# Altium schematic symbol library SEMATIK_LIB.SchLib: 632 symbols (part 13 of 21)
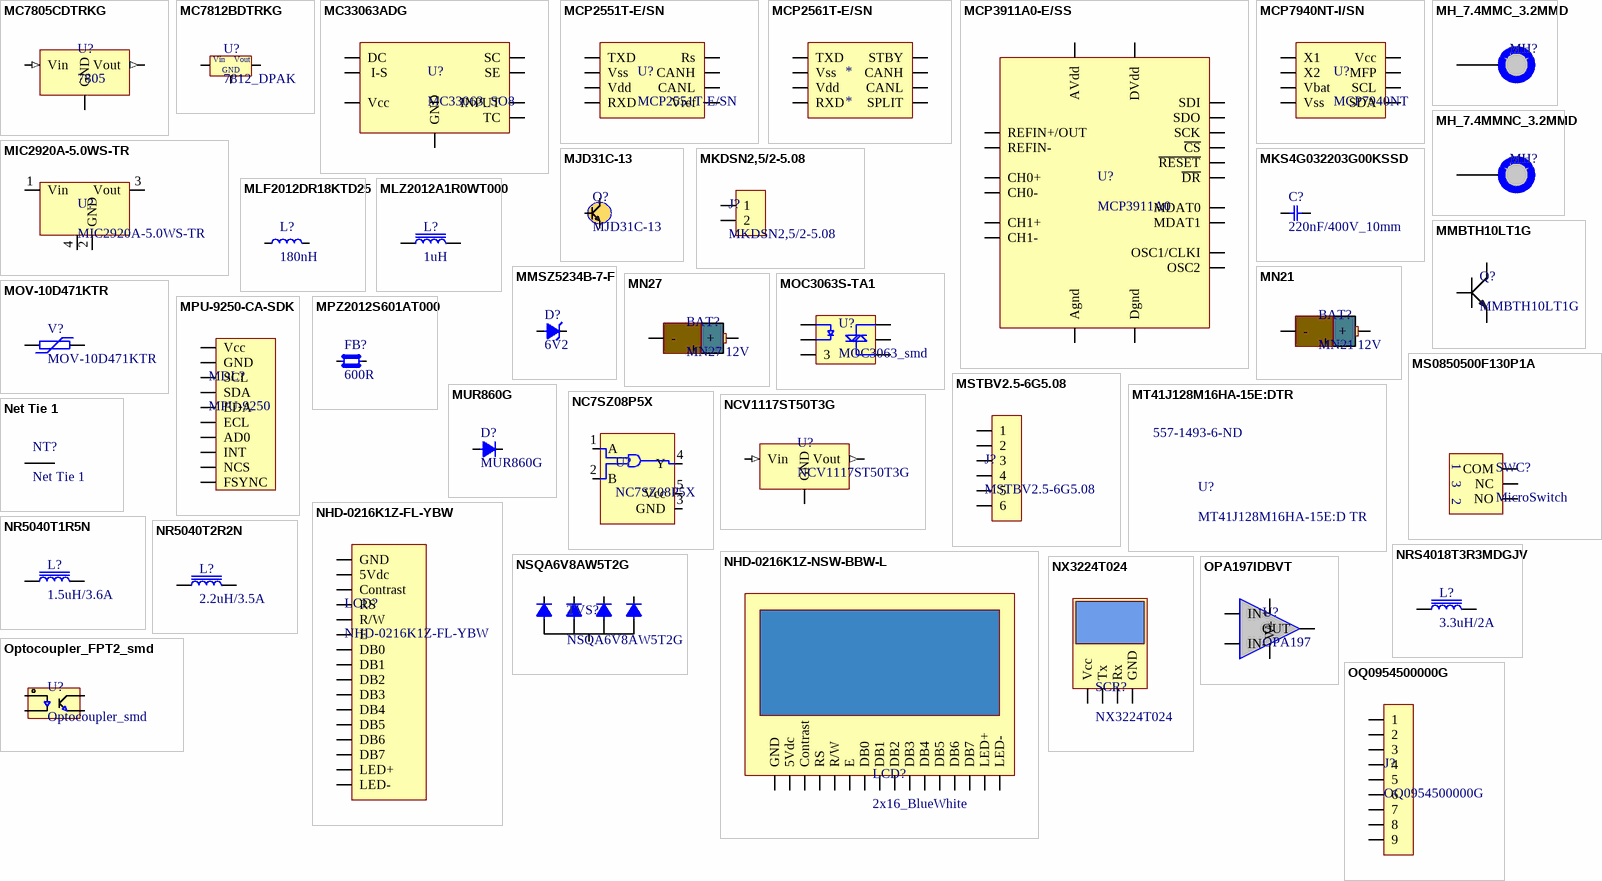
[diagram p28: symbols MC7805CDTRKG to OQ0954500000G]

## NHD-0216K1Z-NSW-BBW-L
designator LCD?, comment 2x16_BlueWhite
LCD MOD CHAR 2X16 WHT TRANSM; Manufacturer: Newhaven Display; Manufacturer Part Number: NHD-0216K1Z-NSW-BBW-L; Backlight Type: LED; Operating Supply Voltage: 5V; Interface: Parallel; Number of Characters: 32; Background Color: Blue; Contrast Ratio: 3:1; Supplier 1: Digi-Key; Stock 1: 4395; Pricing 1: 1 = 12,43000, 5 = 11,68800, 10 = 10,94200, 50 = 10,32000, 100 = 9,82260, 250 = 9,32524, 500 = 8,95222 (USD); RoHS: Yes; Mount: Screw; Number of Pins: 16; Min Operating Temperature: -20°C; Max Operating Temperature: 70°C; Package Quantity: 50; Packaging: Bulk; ComponentLink1URL: https://datasheet.ciiva.com/19454/2118598-19454067.pdf?src-supplier=Jameco; ComponentLink1Description: https://datasheet.ciiva.com/19454/2118598-19454067.pdf?src-supplier=Jameco; ComponentLink2URL: https://datasheet.ciiva.com/2102/nhd-0216k1z-nsw-bbw-l-2102246.pdf?src-supplier=Digi-Key; ComponentLink2Description: https://datasheet.ciiva.com/2102/nhd-0216k1z-nsw-bbw-l-2102246.pdf?src-supplier=Digi-Key; ComponentLink3URL: https://datasheet.ciiva.com/5325/nhd-0216k1z-nsw-bbw-l-35602-5325807.pdf?src-supplier=Mouser; ComponentLink3Description: https://datasheet.ciiva.com/5325/nhd-0216k1z-nsw-bbw-l-35602-5325807.pdf?src-supplier=Mouser; ComponentLink4URL: https://datasheet.ciiva.com/49271/70518091-49271829.pdf?src-supplier=Allied+Electronics; ComponentLink4Description: https://datasheet.ciiva.com/49271/70518091-49271829.pdf?src-supplier=Allied+Electronics; ComponentLink5URL: https://datasheet.ciiva.com/16231/nhd-0216k1z-nsw-bbw-l-16231594.pdf?src-supplier=Onlinecomponents.com; ComponentLink5Description: https://datasheet.ciiva.com/16231/nhd-0216k1z-nsw-bbw-l-16231594.pdf?src-supplier=Onlinecomponents.com; ComponentLink6URL: https://datasheet.ciiva.com/30085/nhd-0216k1z-nsw-bbw-l-30085308.pdf?src-supplier=Onlinecomponents.com; ComponentLink6Description: https://datasheet.ciiva.com/30085/nhd-0216k1z-nsw-bbw-l-30085308.pdf?src-supplier=Onlinecomponents.com; Supplier Part Number 1: NHD-0216K1Z-NSW-BBW-L-ND
footprint LCD_2x16_8.4mm
pins: 1 GND, 2 5Vdc, 3 Contrast, 4 RS, 5 R/W, 6 E, 7 DB0, 8 DB1, 9 DB2, 10 DB3, 11 DB4, 12 DB5, 13 DB6, 14 DB7, 15 LED+, 16 LED-

## NR5040T1R5N
designator L?, comment 1.5uH/3.6A
FIXED IND uH 1.5 3.6A 26 MOHM SMD; Manufacturer: Taiyo Yuden; Manufacturer Part Number: NR5040T1R5N; Core Material: Ferrite; Saturation Current: 6A; Tolerance: 30%; Shielding: Shielded; Self Resonant Frequency: 60MHz; Inductance: 1.5uH; DC Resistance (DCR): 26mR; Test Frequency: 100kHz; Supplier 1: Digi-Key; Stock 1: 1326; Pricing 1: 1 = 0,43000, 10 = 0,37300, 25 = 0,34680, 50 = 0,29340, 100 = 0,26680, 250 = 0,25076, 500 = 0,22408 (USD); RoHS: Yes; Mount: Surface Mount; Case/Package: Nonstandard; Number of Pins: 2; Min Operating Temperature: -25°C; Max Operating Temperature: 120°C; Package Quantity: 1500; Current Rating: 3.6A; Packaging: Tape and Reel; Composition: Wirewound; Max DC Current: 6A; Termination: SMD/SMT; Length: 0.193inch; Height: 4mm; Width: 0.193inch; Height - Seated (Max): 0.161inch; Depth: 5.1mm; Radiation Hardening: No; Halogen Free: Halogen Free; ComponentLink1URL: https://datasheet.ciiva.com/8502/nr5040t1r5n-ss-8502889.pdf?src-supplier=Avnet; ComponentLink1Description: https://datasheet.ciiva.com/8502/nr5040t1r5n-ss-8502889.pdf?src-supplier=Avnet; ComponentLink2URL: https://datasheet.ciiva.com/6689/wound04-e-6689255.pdf?src-supplier=Digi-Key; ComponentLink2Description: https://datasheet.ciiva.com/6689/wound04-e-6689255.pdf?src-supplier=Digi-Key; ComponentLink3URL: https://datasheet.ciiva.com/6689/wound04-e-6689253.pdf?src-supplier=Digi-Key; ComponentLink3Description: https://datasheet.ciiva.com/6689/wound04-e-6689253.pdf?src-supplier=Digi-Key; Supplier Part Number 1: 587-2367-1-ND
footprint INDUCTOR_TAIYO_NR5040
pins: 1, 2

## NR5040T2R2N
designator L?, comment 2.2uH/3.5A
FIXED IND uH 2.2 3.5A 28.6 MOHM; Manufacturer: Taiyo Yuden; Manufacturer Part Number: NR5040T2R2N; Core Material: Ferrite; Inductance Tolerance: 30%; Self Resonant Frequency: 42MHz; Saturation Current: 4.6A; Shielding: Shielded; Inductance: 2.2uH; DC Resistance (DCR): 28.6mR; Test Frequency: 100kHz; Supplier 1: Digi-Key; Stock 1: 26830; Pricing 1: 1 = 0,43000, 10 = 0,37300, 25 = 0,34680, 50 = 0,29340, 100 = 0,26680, 250 = 0,25076, 500 = 0,22408 (USD); RoHS: Yes; Mount: Surface Mount; Case/Package: Nonstandard; Number of Pins: 2; Min Operating Temperature: -25°C; Max Operating Temperature: 120°C; Packaging: Tape and Reel; Package Quantity: 1500; Current Rating: 3.5A; Tolerance: 30%; Composition: Wirewound; Max DC Current: 4.6A; Termination: SMD/SMT; RMS Current (Irms): 3.5A; Length: 0.193inch; Height: 4mm; Width: 0.193inch; Height - Seated (Max): 0.161inch; Depth: 5.1mm; Radiation Hardening: No; REACH SVHC: Unknown; Halogen Free: Halogen Free; ComponentLink1URL: https://datasheet.ciiva.com/8502/nr5040t2r2n-ss-8502898.pdf?src-supplier=Avnet; ComponentLink1Description: https://datasheet.ciiva.com/8502/nr5040t2r2n-ss-8502898.pdf?src-supplier=Avnet; ComponentLink2URL: https://datasheet.ciiva.com/6689/wound04-e-6689257.pdf?src-supplier=Digi-Key; ComponentLink2Description: https://datasheet.ciiva.com/6689/wound04-e-6689257.pdf?src-supplier=Digi-Key; ComponentLink3URL: https://datasheet.ciiva.com/6689/wound04-e-6689260.pdf?src-supplier=Digi-Key; ComponentLink3Description: https://datasheet.ciiva.com/6689/wound04-e-6689260.pdf?src-supplier=Digi-Key; ComponentLink4URL: https://datasheet.ciiva.com/6689/wound04-e-6689263.pdf?src-supplier=Digi-Key; ComponentLink4Description: https://datasheet.ciiva.com/6689/wound04-e-6689263.pdf?src-supplier=Digi-Key; Supplier Part Number 1: 587-2369-6-ND
footprint INDUCTOR_TAIYO_NR5040
pins: 1, 2

## NRS4018T3R3MDGJV
designator L?, comment 3.3uH/2A
FIXED IND uH 3.3 2A 66 MOHM SMD; Manufacturer: Taiyo Yuden; Manufacturer Part Number: NRS4018T3R3MDGJV; Core Material: Ferrite; Tolerance: 20%; Inductance: 3.3uH; Saturation Current: 2.3A; Shielding: Shielded; DC Resistance (DCR): 66mR; Self Resonant Frequency: 45MHz; Test Frequency: 100kHz; Supplier 1: Digi-Key; Stock 1: 7981; Pricing 1: 1 = 0,44000, 10 = 0,39000, 25 = 0,34160, 50 = 0,29280, 100 = 0,26830, 250 = 0,24392, 500 = 0,22928, 1000 = 0,17563 (USD); RoHS: Yes; Mount: Surface Mount; Case/Package: Nonstandard; Min Operating Temperature: -40°C; Max Operating Temperature: 125°C; Packaging: Tape and Reel; Composition: Wirewound; Current Rating: 2A; Length: 0.157inch; Width: 0.157inch; Height - Seated (Max): 0.071inch; ComponentLink1URL: https://ds.yuden.co.jp/TYCOMPAS/ut/detail?pn=NRS4018T3R3MDGJV  &amp;u=M&src-supplier=Digi-Key; ComponentLink1Description: https://ds.yuden.co.jp/TYCOMPAS/ut/detail?pn=NRS4018T3R3MDGJV  &amp;u=M&src-supplier=Digi-Key; ComponentLink2URL: http://ds.yuden.co.jp/TYCOMPAS/ut/detail.do?productNo=NRS4018T3R3MDGJV&fileName=NRS4018T3R3MDGJV_SS&mode=specSheetDownload&src-supplier=Digi-Key; ComponentLink2Description: http://ds.yuden.co.jp/TYCOMPAS/ut/detail.do?productNo=NRS4018T3R3MDGJV&fileName=NRS4018T3R3MDGJV_SS&mode=specSheetDownload&src-supplier=Digi-Key; ComponentLink3URL: http://www.yuden.co.jp/productdata/catalog/en/wound04_e.pdf?src-supplier=Digi-Key; ComponentLink3Description: http://www.yuden.co.jp/productdata/catalog/en/wound04_e.pdf?src-supplier=Digi-Key; Supplier Part Number 1: 587-6019-1-ND
footprint FIX_IND_3.3UH(4x4x1.8)
pins: 1, 2

## NSQA6V8AW5T2G
designator TVS?
TVS Quad ESD Suppressor 8KV 5V SC70-5; Manufacturer: ON Semiconductor; Number of Elements: 4; Reverse Breakdown Voltage: 6.4V; Element Configuration: Common Anode; Capacitance: 15pF; Max Surge Current: 1.6A; Direction: Unidirectional; Clamping Voltage: 13V; Peak Pulse Power: 20W; Power Line Protection: No; Breakdown Voltage: 6.8V; Leakage Current: 1uA; Test Current: 1mA; Max Breakdown Voltage: 7.1V; ESD Protection: Yes; Supplier 1: Digi-Key; Manufacturer Part Number: NSQA6V8AW5T2G; Stock 1: 19; Pricing 1: 1 = 0,35000, 10 = 0,28200, 25 = 0,25800, 100 = 0,16200, 250 = 0,16020, 500 = 0,15000, 1000 = 0,10200 (USD); RoHS: Yes; Case/Package: SC; Number of Pins: 5; Contact Plating: Tin,Matte; Min Operating Temperature: -40°C; Max Operating Temperature: 125°C; Package Quantity: 1; Operating Supply Voltage: 5V; Packaging: Tape and Reel; Number of Unidirectional Channels: 4; Reverse Standoff Voltage: 5V; Min Breakdown Voltage: 6.4V; Polarity: Unidirectional; Number of Channels: 4; Termination: SMD/SMT; Peak Pulse Current: 1.6A; Power Dissipation: 20W; Max Reverse Leakage Current: 1uA; Number of Lines: 4; Voltage Rating (DC): 6.8V; Composition: Zener; Length: 2.2mm; Height: 1mm; Width: 1.35mm; Depth: 1.35mm; Radiation Hardening: No; Lead Free: Lead Free; Halogen Free: Halogen Free; ComponentLink1URL: https://datasheet.ciiva.com/11193/nsqa6v8aw5t2-d-11193200.pdf?src-supplier=Avnet; ComponentLink1Description: https://datasheet.ciiva.com/11193/nsqa6v8aw5t2-d-11193200.pdf?src-supplier=Avnet; ComponentLink2URL: https://datasheet.ciiva.com/15143/getdatasheetpartid-134373-15143649.pdf?src-supplier=Verical; ComponentLink2Description: https://datasheet.ciiva.com/15143/getdatasheetpartid-134373-15143649.pdf?src-supplier=Verical; ComponentLink3URL: https://datasheet.ciiva.com/339/nsqa6v8aw5t2-d-339844.pdf?src-supplier=Digi-Key; ComponentLink3Description: https://datasheet.ciiva.com/339/nsqa6v8aw5t2-d-339844.pdf?src-supplier=Digi-Key; ComponentLink4URL: https://datasheet.ciiva.com/30479/0900766b8127caf9-30479001.pdf?src-supplier=RSComponents; ComponentLink4Description: https://datasheet.ciiva.com/30479/0900766b8127caf9-30479001.pdf?src-supplier=RSComponents; ComponentLink5URL: https://datasheet.ciiva.com/339/nsqa6v8aw5t2-d-339846.pdf?src-supplier=Digi-Key; ComponentLink5Description: https://datasheet.ciiva.com/339/nsqa6v8aw5t2-d-339846.pdf?src-supplier=Digi-Key; Supplier Part Number 1: NSQA6V8AW5T2GOSCT-ND
footprint SOT-353
pins: 1 Katot, 2 Anot, 3 Katot, 4 Katot, 5 Katot

## NX3224T024
designator SCR?
HMI SCREEN TFT LCD 2.4" TOUCHSENSE
footprint HMI_NEXTION_2.4_Inch
pins: 1 Vcc, 2 Tx, 3 Rx, 4 GND

## OPA197IDBVT
designator U?, comment OPA197
IC OPAMP GP 1 CIRCUIT SOT23-5
footprint SOT-23-5
pins: 1 OUT, 2 V-, 3 IN+, 4 IN-, 5 V+

## Optocoupler_FPT2_smd
designator U?, comment Optocoupler_smd
Manufacturer: Everlight; Manufacturer Part Number: EL3H7(B)(TA)-VG; Number of Channels: 1; Collector Emitter Voltage (VCEO): 80V; Max Power Dissipation: 200mW; Forward Current: 50mA; Forward Voltage: 1.4V; Reverse Breakdown Voltage: 6V; Rise Time: 18000ns; Collector Emitter Saturation Voltage: 200mV; Isolation Voltage: 3.75kV; Current Transfer Ratio: 260%; Approvals: UL; Supplier 1: Digi-Key; Stock 1: 147538; Pricing 1: 1=0.42, 10=0.304, 25=0.248, 100=0.1985, 250=0.16752, 500=0.1427, 1000=0.11167, 2500=0.10237 (USD); Mount: Surface Mount; Case/Package: SSOP; Number of Pins: 4; Min Operating Temperature: -55°C; Max Operating Temperature: 125°C; Packaging: Tape and Reel; Package Quantity: 1; Max Output Voltage: 80V; Output Current per Channel: 50mA; Max Input Current: 50mA; Max Collector Current: 50mA; Fall Time: 18000ns; Number of Elements: 1; Power Dissipation: 200mW; Collector Emitter Breakdown Voltage: 80V; Radiation Hardening: No; Lead Free: Lead Free; ComponentLink1URL: https://everlightamericas.com/index.php?controller=attachment&id_attachment=2584&src-supplier=Digi-Key; ComponentLink1Description: https://everlightamericas.com/index.php?controller=attachment&id_attachment=2584&src-supplier=Digi-Key; ComponentLink2URL: https://everlightamericas.com/index.php?controller=attachment&amp;id_attachment=2584&src-supplier=Digi-Key; ComponentLink2Description: https://everlightamericas.com/index.php?controller=attachment&amp;id_attachment=2584&src-supplier=Digi-Key; ComponentLink3URL: https://www.verical.com/server-webapp/html/getDatasheet?partID=416716&src-supplier=Verical; ComponentLink3Description: https://www.verical.com/server-webapp/html/getDatasheet?partID=416716&src-supplier=Verical; Supplier Part Number 1: 1080-1197-6-ND
footprint FPT2_OPTO_SMD
pins: 1 Anod, 2 Cath, 3 Emiter, 4 Collector

## OQ0954500000G
designator J?
TERM BLOCK HDR 9POS VERT 5.08MM; Manufacturer: Amphenol Anytek; Number of Positions: 9; Number of Levels: 1; Pitch: 0.200" (5.08mm); Header Orientation: Vertical; Material Flammability Rating: UL94 V-0; Contact Tail Length: 0.157" (4.00mm); Supplier 1: Digi-Key; Manufacturer Part Number: OQ0954500000G; RoHS: RoHS Compliant; Category: Connectors, Interconnects; Stock 1: 1515; Pricing 1: 1=0.99, 10=0.696, 25=0.6492, 50=0.5892, 100=0.5865, 250=0.49528, 500=0.46922, 1000=0.41709, 5000=0.33888 (USD); Packaging: Bulk; Part Status: Active; Type: Header, Male Pins, Shrouded (4 Side); Positions Per Level: 9; Plug Wire Entry: -; Termination Style: Solder; Mounting Type: Through Hole; Current - IEC: -; Wire Gauge or Range - AWG: -; Wire Gauge or Range - mm²: -; Color: Green; Operating Temperature: -40°C ~ 115°C; Contact Mating Finish: Tin; Features: -; Ingress Protection: -; Screw Size: -; Torque - Screw: -; Wire Strip Length: -; Contact Material: Copper Alloy; Housing Material: Thermoplastic Resin; Insulation Height: 0.472" (12.00mm); ComponentLink1URL: http://portal.fciconnect.com/Comergent//fci/drawing/20020107.pdf; ComponentLink1Description: http://portal.fciconnect.com/Comergent//fci/drawing/20020107.pdf; Supplier Part Number 1: 609-3903-ND
footprint SOCKET_5.08_1X9_180_CLOSE
footprint SOCKET_5.08_1X9_180_CLOSE_WITHPLUG
pins: 1, 2, 3, 4, 5, 6, 7, 8, 9

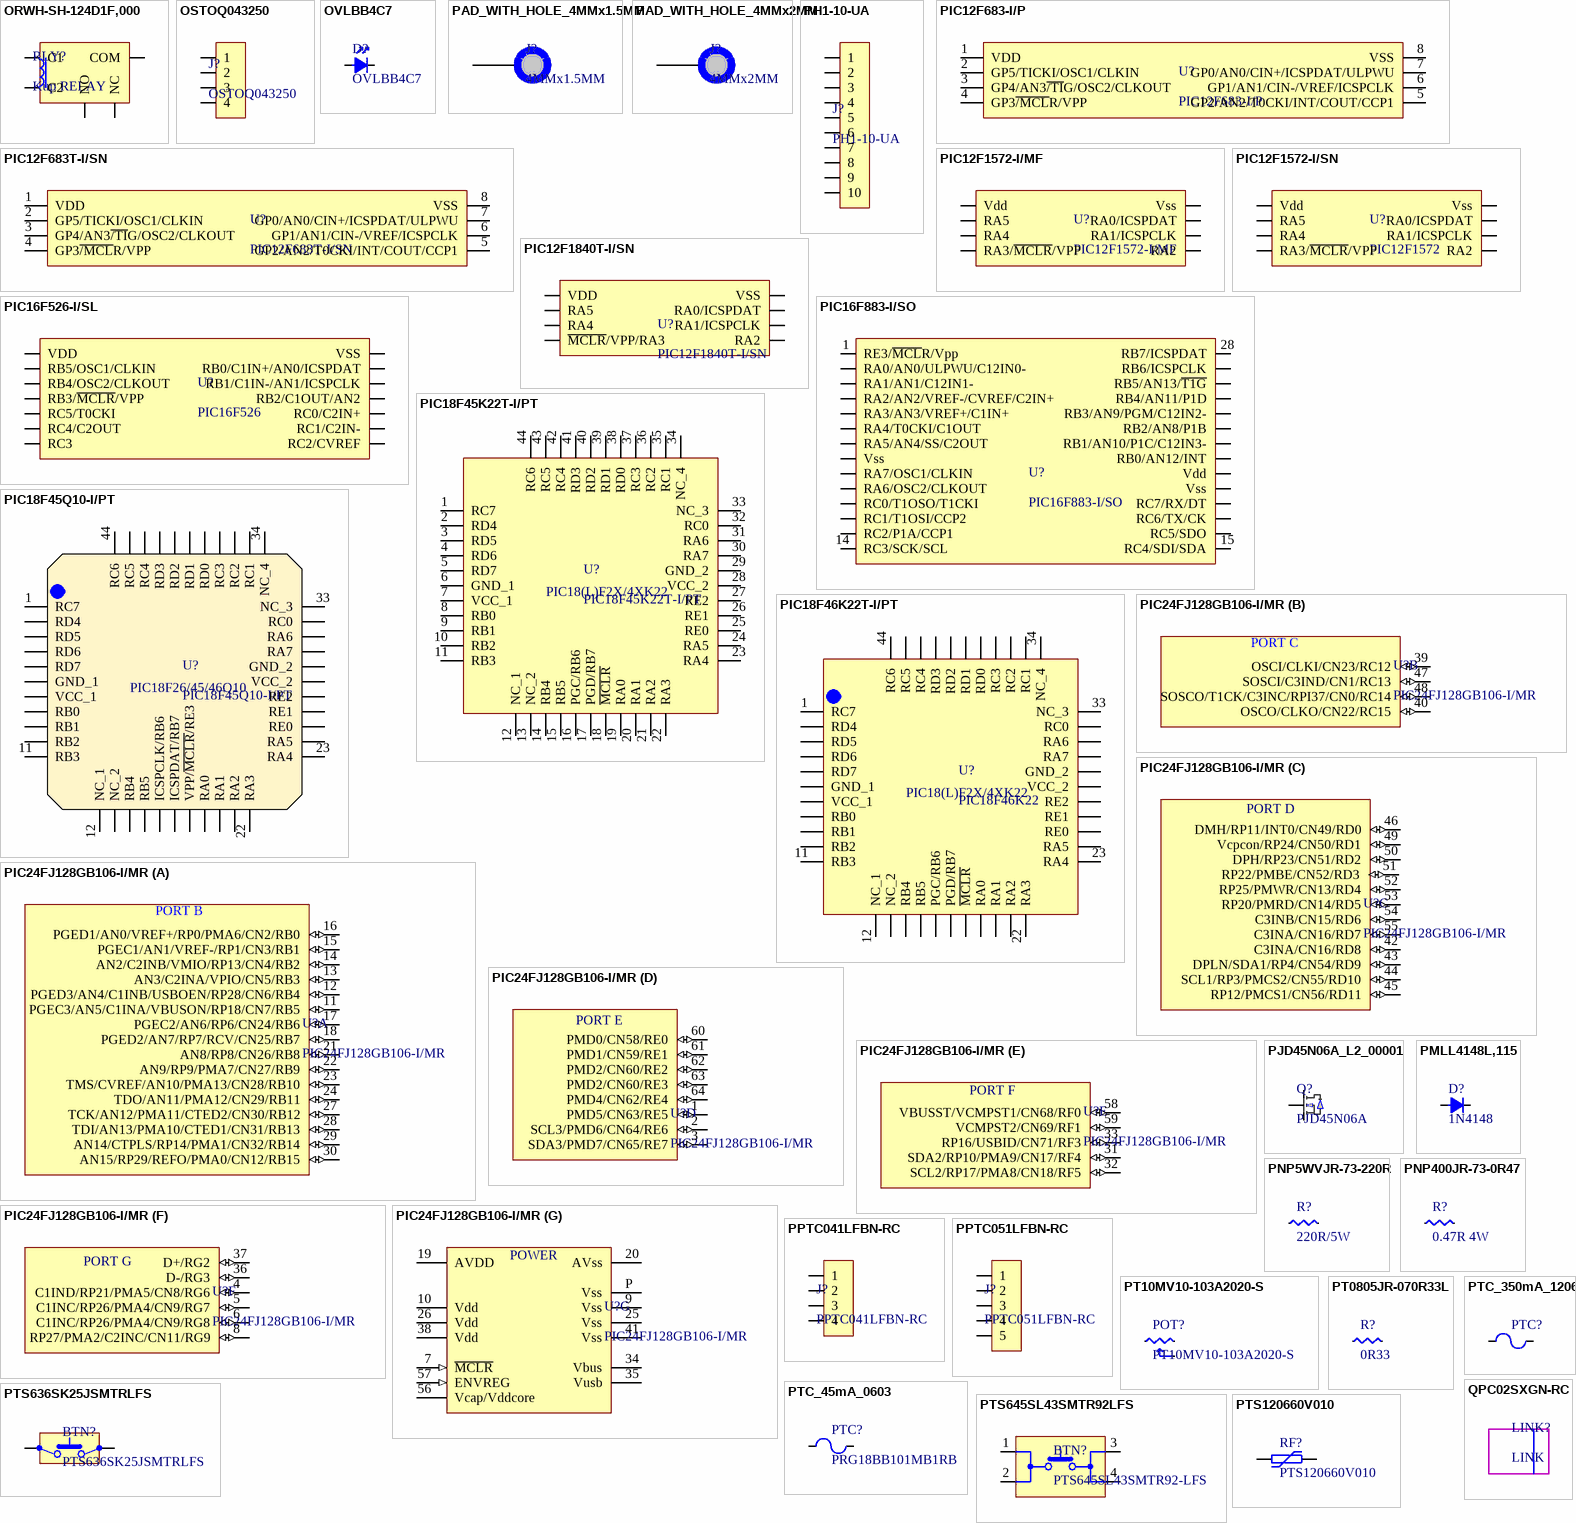
[diagram p10: symbols ORWH-SH-124D1F,000 to QPC02SXGN-RC]

## ORWH-SH-124D1F,000
designator RLY?, comment Kup RELAY
RELAY GEN PURPOSE SPDT 10A 24V; Manufacturer: TE Connectivity OEG; Manufacturer Part Number: 1-1721150-5; Contact Voltage Rating (AC): 277V; Coil Resistance: 1.6kR; Coil Power: 400mW; Coil Type: Non-Latching; Power Consumption: 360mW; Supplier 1: Digi-Key; Stock 1: 12755; Pricing 1: 1 = 1,29000, 10 = 1,21000, 25 = 1,07560, 50 = 1,02160, 100 = 0,96790, 250 = 0,86032, 500 = 0,80656, 1000 = 0,75278, 5000 = 0,72590 (USD); RoHS: Yes; Mount: PCB; Weight: 9.5g; Contact Material: Silver; Min Operating Temperature: -30°C; Max Operating Temperature: 70°C; Termination: PCB; Throw Configuration: SPDT; Coil Voltage (DC): 24V; Contact Current Rating: 10A; Packaging: Rail/Tube; Package Quantity: 25; Length: 0.748inch; Height: 0.622inch; Depth: 15.5mm; Width: 15.5mm; REACH SVHC: Unknown; ComponentLink1URL: https://datasheet.ciiva.com/30468/0900766b81290592-30468804.pdf?src-supplier=RSComponents; ComponentLink1Description: https://datasheet.ciiva.com/30468/0900766b81290592-30468804.pdf?src-supplier=RSComponents; ComponentLink2URL: https://datasheet.ciiva.com/16425/ng-cd-1721150-d-246715-16425074.pdf?src-supplier=Mouser; ComponentLink2Description: https://datasheet.ciiva.com/16425/ng-cd-1721150-d-246715-16425074.pdf?src-supplier=Mouser; ComponentLink3URL: https://datasheet.ciiva.com/22661/1716748-22661638.pdf?src-supplier=Element14; ComponentLink3Description: https://datasheet.ciiva.com/22661/1716748-22661638.pdf?src-supplier=Element14; Supplier Part Number 1: PB2031-ND
footprint Relay_HJR-3FF-S-Z
pins: C1, C2, COM, NC, NO

## OSTOQ043250
designator J?
TERM BLOCK HDR 4POS VERT 3.81MM; Manufacturer: On Shore Technology Inc.; Number of Positions: 4; Number of Levels: 1; Pitch: 0.150" (3.81mm); Header Orientation: Vertical; Contact Tail Length: 0.138" (3.50mm); Supplier 1: Digi-Key; Manufacturer Part Number: OSTOQ043250; RoHS: RoHS Compliant; Category: Connectors, Interconnects; Stock 1: 14666; Pricing 1: 1=0.89, 10=0.555, 25=0.4752, 50=0.4272, 100=0.4183, 250=0.356, 500=0.3382, 1000=0.3026, 5000=0.23674 (USD); Packaging: Bulk; Part Status: Active; Type: Header, Male Pins, Shrouded (4 Side); Positions Per Level: 4; Plug Wire Entry: -; Termination Style: -; Mounting Type: Solder; Current - IEC: -; Wire Gauge or Range - AWG: -; Wire Gauge or Range - mm²: -; Color: -; Operating Temperature: -30°C ~ 105°C; Contact Mating Finish: Tin; Features: -; Material Flammability Rating: -; Ingress Protection: -; Screw Size: -; Torque - Screw: -; Wire Strip Length: -; Contact Material: -; Housing Material: Brass; Insulation Height: 0.138" (3.50mm); ComponentLink1URL: http://www.on-shore.com/wp-content/uploads/2015/09/ostoqxx3250.pdf; ComponentLink1Description: http://www.on-shore.com/wp-content/uploads/2015/09/ostoqxx3250.pdf; Supplier Part Number 1: ED2821-ND
footprint 1x4_150mil_connector_180
pins: 1, 2, 3, 4

## OVLBB4C7
designator D?
LED BLUE CLEAR 3MM T/H; Manufacturer 1: TT Optek; Lens Color: Colorless; Luminous Intensity: 900mcd; Viewing Angle: 45°; Forward Voltage: 3.2V; Lens Style: Dome,Round,Clear; Wavelength: 470nm; Forward Current: 20mA; Number of Elements: 1; Power Dissipation: 100W; Reverse Voltage: 5V; Lead Length: 23.9mm; Supplier 1: Digi-Key; Manufacturer Part Number 1: OVLBB4C7; Description 1: LED BLUE CLEAR 3MM T/H; Stock 1: 13716; Pricing 1: 1=0.34, 100=0.32, 250=0.31, 500=0.3, 1000=0.29, 2500=0.28, 5000=0.27, 10000=0.26, 25000=0.25 (USD); Mount: Through Hole; Case/Package: Radial; Number of Pins: 1; Color: Blue; Min Operating Temperature: -40°C; Max Operating Temperature: 100°C; Packaging: Bulk; Package Quantity: 500; Illumination Color: Blue; Dominant Wavelength: 470nm; Test Current: 20mA; Lens Transparency: Clear; Length: 3mm; Height: 5.35mm; Depth: 3mm; Radiation Hardening: No; REACH SVHC: No SVHC; Lead Free: Lead Free; ComponentLink1URL: http://www.farnell.com/datasheets/2158882.pdf?src-supplier=Element14; ComponentLink1Description: http://www.farnell.com/datasheets/2158882.pdf?src-supplier=Element14; ComponentLink2URL: http://www.ttelectronics.com/sites/default/files/download-files/OVLBB4C7.pdf?src-supplier=Digi-Key; ComponentLink2Description: http://www.ttelectronics.com/sites/default/files/download-files/OVLBB4C7.pdf?src-supplier=Digi-Key; ComponentLink3URL: http://www.mouser.com/ds/2/414/OVLBY4C7-209007.pdf?src-supplier=Mouser; ComponentLink3Description: http://www.mouser.com/ds/2/414/OVLBY4C7-209007.pdf?src-supplier=Mouser; ComponentLink4URL: http://www.newark.com/pdfs/datasheets/Optek/OVLBB4C7.pdf?src-supplier=Element14; ComponentLink4Description: http://www.newark.com/pdfs/datasheets/Optek/OVLBB4C7.pdf?src-supplier=Element14; Supplier Part Number 1: 365-1173-ND
footprint Led_3mm_blue
pins: 1 Anot, 2 Katot

## PAD_WITH_HOLE_4MMx1.5MM
designator J?, comment 4MMx1.5MM  (no BOM)
pad with hole 4mmx1.5mm
footprint PAD_WITH_HOLE_4MMx1.5MM
pins: 1

## PAD_WITH_HOLE_4MMx2MM
designator J?, comment 4MMx2MM  (no BOM)
pad with hole 4mmx2mm
footprint PAD_WITH_HOLE_4MMx1.5MM
pins: 1

## PH1-10-UA
designator J?
CONN HEADER 10POS .100; Manufacturer: Adam Equipment; Pitch: 2.54mm; Supplier 1: Digi-Key; Manufacturer Part Number: PH1-10-UA; RoHS: Yes; Category: Connectors; Stock 1: 2034; Pricing 1: 1=0,19000, 10=0,18100, 100=0,11160, 500=0,09236, 1000=0,08081, 5000=0,06926, 10000=0,06734 (USD); Termination: PCB; Number of Rows: 1; ComponentLink1URL: https://datasheet.ciiva.com/13676/page-292-295-13676646.pdf?src-supplier=Mouser; ComponentLink1Description: https://datasheet.ciiva.com/13676/page-292-295-13676646.pdf?src-supplier=Mouser; Supplier Part Number 1: 2057-PH1-10-UA-ND
footprint 1x10_100mil_Header_erkek
pins: 1, 2, 3, 4, 5, 6, 7, 8, 9, 10

## PIC12F683-I/P
designator U?
IC MCU 8BIT 3.5KB FLASH 8DIP; Manufacturer 1: Microchip; Data Bus Width: 8b; Core Architecture: PIC; Number of PWM Channels: 1; RAM Size: 128B; Number of Timers/Counters: 3; Min Supply Voltage: 4.5V; Operating Supply Voltage: 5V; Max Supply Voltage: 5.5V; Number of I/Os: 6; Frequency: 20MHz; Max Power Dissipation: 800mW; Number of ADC Channels: 4; Interface: RS-232,USB; Number of Bits: 8; Oscillator Type: Internal; Watchdog Timer: Yes; Nominal Supply Current: 220uA; Access Time: 20us; Peripherals: PWM,Brown-out Detect/Reset,POR,WDT; Supplier 1: Digi-Key; Manufacturer Part Number 1: PIC12F683-I/P; Description 1: IC MCU 8BIT 3.5KB FLASH 8DIP; Stock 1: 2198; Pricing 1: 1=1.22, 25=1.1844, 100=1.1536 (USD); Mount: Through Hole; Case/Package: PDIP; Number of Pins: 8; Weight: 0.01lb; Contact Plating: Tin,Matte; Min Operating Temperature: -40°C; Max Operating Temperature: 85°C; Package Quantity: 60; Density: 3.5KB; Packaging: Rail/Tube; Number of Programmable I/O: 6; Memory Size: 3.5KB; Memory Type: FLASH; Max Frequency: 20MHz; Address Bus Width: 8b; Number of A/D Converters: 1; Length: 10.16mm; Height: 0.195inch; Width: 0.28inch; Radiation Hardening: No; Lead Free: Lead Free; REACH SVHC: No SVHC; ComponentLink1URL: http://www.microchip.com/mymicrochip/filehandler.aspx?ddocname=en015005&src-supplier=Digi-Key; ComponentLink1Description: http://www.microchip.com/mymicrochip/filehandler.aspx?ddocname=en015005&src-supplier=Digi-Key; ComponentLink2URL: http://ww1.microchip.com/downloads/en/DeviceDoc/41211D_.pdf?src-supplier=Avnet; ComponentLink2Description: http://ww1.microchip.com/downloads/en/DeviceDoc/41211D_.pdf?src-supplier=Avnet; ComponentLink3URL: https://www.distrelec.biz/Web/Downloads/t_/en/bkPIC_12F683_Datasheet_EN.pdf?mime=application%2Fpdf&src-supplier=Distrelec; ComponentLink3Description: https://www.distrelec.biz/Web/Downloads/t_/en/bkPIC_12F683_Datasheet_EN.pdf?mime=application%2Fpdf&src-supplier=Distrelec; ComponentLink4URL: http://www.rapidonline.com/pdf/73-3374.pdf?src-supplier=Rapid+Electronics; ComponentLink4Description: http://www.rapidonline.com/pdf/73-3374.pdf?src-supplier=Rapid+Electronics; ComponentLink5URL: http://www.mouser.com/ds/2/268/41211B-75831.pdf?src-supplier=Mouser; ComponentLink5Description: http://www.mouser.com/ds/2/268/41211B-75831.pdf?src-supplier=Mouser; ComponentLink6URL: http://www.farnell.com/datasheets/131838.pdf?src-supplier=Element14; ComponentLink6Description: http://www.farnell.com/datasheets/131838.pdf?src-supplier=Element14; ComponentLink7URL: https://produktinfo.conrad.com/datenblaetter/150000-174999/160425-da-01-en-PIC_PIC12F683_I_P.pdf?src-supplier=Conrad; ComponentLink7Description: https://produktinfo.conrad.com/datenblaetter/150000-174999/160425-da-01-en-PIC_PIC12F683_I_P.pdf?src-supplier=Conrad; Supplier Part Number 1: PIC12F683-I/P-ND
footprint DIP8
footprint DIP8withSOCKET
footprint SOP8+DIP8
pins: 1 VDD, 2 GP5/TICKI/OSC1/CLKIN, 3 GP4/AN3~{/TI}G/OSC2/CLKOUT, 4 GP3~{/MCL}R/VPP, 5 GP2/AN2/T0CKI/INT/COUT/CCP1, 6 GP1/AN1/CIN-/VREF/ICSPCLK, 7 GP0/AN0/CIN+/ICSPDAT/ULPWU, 8 VSS

## PIC12F683T-I/SN
designator U?
IC MCU 8BIT 3.5KB FLASH 8SOIC; Manufacturer: Microchip Technology; Core Processor: PIC; Core Size: 8-Bit; Speed: 20MHz; Peripherals: Brown-out Detect/Reset, POR, PWM, WDT; Program Memory Size: 3.5KB (2K x 14); EEPROM Size: 256 x 8; RAM Size: 128 x 8; Voltage - Supply (Vcc/Vdd): 2 V ~ 5.5 V; Data Converters: A/D 4x10b; Oscillator Type: Internal; Supplier 1: Digi-Key; Manufacturer Part Number: PIC12F683T-I/SN; RoHS: RoHS Compliant; Category: Integrated Circuits (ICs); Stock 1: 3300; Pricing 1: 3300=1.1433 (USD); Packaging: Tape & Reel (TR); Part Status: Active; Connectivity: -; Program Memory Type: FLASH; Operating Temperature: -40°C ~ 85°C (TA); Package / Case: 8-SOIC (0.154", 3.90mm Width); Supplier Device Package: 8-SOIC; Base Part Number: PIC12F683; ComponentLink1URL: http://www.microchip.com/mymicrochip/filehandler.aspx?ddocname=en011813; ComponentLink1Description: http://www.microchip.com/mymicrochip/filehandler.aspx?ddocname=en011813; Supplier Part Number 1: PIC12F683T-I/SNTR-ND
footprint SOP8
footprint SOP8+DIP8
pins: 1 VDD, 2 GP5/TICKI/OSC1/CLKIN, 3 GP4/AN3~{/TI}G/OSC2/CLKOUT, 4 GP3~{/MCL}R/VPP, 5 GP2/AN2/T0CKI/INT/COUT/CCP1, 6 GP1/AN1/CIN-/VREF/ICSPCLK, 7 GP0/AN0/CIN+/ICSPDAT/ULPWU, 8 VSS

## PIC12F1572-I/MF
designator U?
IC MCU 8BIT 3.5KB FLASH 8DFN; Manufacturer: Microchip; RAM Size: 256B; Number of Timers/Counters: 6; Number of ADC Channels: 4; Number of UART Channels: 0; Number of PWM Channels: 3; Number of USB Channels: 1; Frequency: 32MHz; Interface: UART,USART,LIN; Oscillator Type: Internal; Data Bus Width: 8b; Watchdog Timer: Yes; Max Supply Voltage: 5.5V; Min Supply Voltage: 2.3V; Peripherals: Brown-out Detect/Reset,POR,PWM,WDT; Core Architecture: PIC; Supplier 1: Digi-Key; Manufacturer Part Number: PIC12F1572-I/MF; Stock 1: 1187; Pricing 1: 1 = 0,78000, 25 = 0,71000, 100 = 0,64000 (USD); RoHS: Yes; Case/Package: DFN; Number of Pins: 8; Weight: 0.001319oz; Min Operating Temperature: -40°C; Max Operating Temperature: 85°C; Number of I/Os: 6; Packaging: Rail/Tube; Number of Programmable I/O: 6; Max Frequency: 32MHz; Memory Type: FLASH; Memory Size: 3.5KB; Package Quantity: 120; Length: 3mm; Width: 2mm; Height: 0.85mm; Radiation Hardening: No; ComponentLink1URL: https://datasheet.ciiva.com/29988/40001723a-29988953.pdf?src-supplier=Avnet; ComponentLink1Description: https://datasheet.ciiva.com/29988/40001723a-29988953.pdf?src-supplier=Avnet; Supplier Part Number 1: PIC12F1572-I/MF-ND
footprint DFN8
pins: 1 Vdd, 2 RA5, 3 RA4, 4 RA3/~{MCLR}/VPP, 5 RA2, 6 RA1/ICSPCLK, 7 RA0/ICSPDAT, 8 Vss

## PIC12F1572-I/SN
designator U?, comment PIC12F1572
IC MCU 8BIT 3.5KB FLASH 8SOIC; Manufacturer: Microchip; Manufacturer Part Number: PIC12F1572-I/SN; Min Supply Voltage: 2.3V; Max Supply Voltage: 5.5V; RAM Size: 256B; Number of ADC Channels: 4; Number of I/Os: 6; Number of UART Channels: 0; Number of PWM Channels: 3; Number of USB Channels: 1; Frequency: 32MHz; Interface: UART,USART,LIN; Oscillator Type: Internal; Data Bus Width: 8b; Watchdog Timer: Yes; Nominal Supply Current: 30uA; Peripherals: Brown-out Detect/Reset,POR,PWM,WDT; Core Architecture: PIC; Supplier 1: Digi-Key; Stock 1: 1089; Pricing 1: 1 = 0,60000, 25 = 0,54000, 100 = 0,50000 (USD); RoHS: Yes; Case/Package: SOIC; Number of Pins: 8; Weight: 0.019048oz; Contact Plating: Tin,Matte; Min Operating Temperature: -40°C; Max Operating Temperature: 85°C; Number of Timers/Counters: 4; Packaging: Rail/Tube; Max Frequency: 32MHz; Number of Programmable I/O: 6; Address Bus Width: 8b; Memory Type: FLASH; Memory Size: 3.5KB; Package Quantity: 100; Length: 4.9mm; Width: 3.9mm; Height: 1.5mm; Radiation Hardening: No; REACH SVHC: No SVHC; Lead Free: Lead Free; ComponentLink1URL: https://datasheet.ciiva.com/29721/filehandler-aspxddocname-en566612-29721609.pdf?src-supplier=Digi-Key; ComponentLink1Description: https://datasheet.ciiva.com/29721/filehandler-aspxddocname-en566612-29721609.pdf?src-supplier=Digi-Key; ComponentLink2URL: https://datasheet.ciiva.com/48514/pic12f1572-eng-tds-48514171.pdf?src-supplier=Distrelec; ComponentLink2Description: https://datasheet.ciiva.com/48514/pic12f1572-eng-tds-48514171.pdf?src-supplier=Distrelec; ComponentLink3URL: https://datasheet.ciiva.com/29988/40001723a-29988956.pdf?src-supplier=Avnet; ComponentLink3Description: https://datasheet.ciiva.com/29988/40001723a-29988956.pdf?src-supplier=Avnet; Supplier Part Number 1: PIC12F1572-I/SN-ND
footprint SOP8
pins: 1 Vdd, 2 RA5, 3 RA4, 4 RA3/~{MCLR}/VPP, 5 RA2, 6 RA1/ICSPCLK, 7 RA0/ICSPDAT, 8 Vss

## PIC12F1840T-I/SN
designator U?
IC MCU 7KB FLASH 256B RAM XLP 8SOIC; Manufacturer 1: Microchip; Interface: SPI,I2C,UART,USART,LIN; Number of I/Os: 5; Number of Timers/Counters: 3; Max Supply Voltage: 5.5V; Min Supply Voltage: 2.5V; Frequency: 32MHz; Max Power Dissipation: 800mW; Data Bus Width: 8b; Oscillator Type: Internal; Watchdog Timer: Yes; Peripherals: Brown-out Detect/Reset,POR,PWM,WDT; Core Architecture: PIC; Supplier 1: Digi-Key; Manufacturer Part Number 1: PIC12F1840T-I/SN; Description 1: MCU 7KB FLASH 256B RAM XLP 8SOIC; Stock 1: 5107; Pricing 1: 1=1.16, 25=1.0608, 100=0.9682 (USD); Case/Package: SOIC; Number of Pins: 8; Min Operating Temperature: -40°C; Max Operating Temperature: 85°C; RAM Size: 256B; Packaging: Tape and Reel; Number of Programmable I/O: 5; Max Frequency: 32MHz; Memory Type: FLASH; Memory Size: 7KB; Radiation Hardening: No; Lead Free: Lead Free; ComponentLink1URL: http://ww1.microchip.com/downloads/en/DeviceDoc/41441C.pdf?src-supplier=Digi-Key; ComponentLink1Description: http://ww1.microchip.com/downloads/en/DeviceDoc/41441C.pdf?src-supplier=Digi-Key; ComponentLink2URL: http://ww1.microchip.com/downloads/en/DeviceDoc/41441B.pdf?src-supplier=Avnet; ComponentLink2Description: http://ww1.microchip.com/downloads/en/DeviceDoc/41441B.pdf?src-supplier=Avnet; Supplier Part Number 1: PIC12F1840T-I/SNCT-ND
footprint SOP8
pins: 1 VDD, 2 RA5, 3 RA4, 4 ~{MCLR}/VPP/RA3, 5 RA2, 6 RA1/ICSPCLK, 7 RA0/ICSPDAT, 8 VSS

## PIC16F526-I/SL
designator U?, comment PIC16F526
IC MCU 8BIT 1.5KB FLASH 14SOIC; Manufacturer: Microchip; Manufacturer Part Number: PIC16F526-I/SL; Number of Timers/Counters: 1; RAM Size: 67B; Number of I/Os: 12; Max Supply Voltage: 5.5V; Min Supply Voltage: 2V; Frequency: 20MHz; Max Power Dissipation: 700mW; Number of ADC Channels: 3; Data Bus Width: 8b; Number of Bits: 8; Oscillator Type: Internal; Watchdog Timer: Yes; Peripherals: POR,WDT; Voltage: 5V; Core Architecture: PIC; Supplier 1: Digi-Key; Stock 1: 529; Pricing 1: 1 = 0,75000, 25 = 0,69000, 100 = 0,62000 (USD); RoHS: Yes; Mount: Surface Mount; Case/Package: SOIC; Number of Pins: 14; Min Operating Temperature: -40°C; Max Operating Temperature: 85°C; Package Quantity: 57; Packaging: Rail/Tube; Number of Programmable I/O: 12; Memory Type: FLASH; Number of A/D Converters: 1; Max Frequency: 20MHz; Memory Size: 1.5KB; Length: 8.65mm; Width: 3.9mm; Height: 1.5mm; Radiation Hardening: No; REACH SVHC: No SVHC; Lead Free: Lead Free; ComponentLink1URL: https://datasheet.ciiva.com/4839/41326a-30861-4839649.pdf?src-supplier=Mouser; ComponentLink1Description: https://datasheet.ciiva.com/4839/41326a-30861-4839649.pdf?src-supplier=Mouser; ComponentLink2URL: https://datasheet.ciiva.com/17387/41326d-17387462.pdf?src-supplier=Avnet+Europe; ComponentLink2Description: https://datasheet.ciiva.com/17387/41326d-17387462.pdf?src-supplier=Avnet+Europe; ComponentLink3URL: https://datasheet.ciiva.com/1487/41326e-1487203.pdf?src-supplier=Digi-Key; ComponentLink3Description: https://datasheet.ciiva.com/1487/41326e-1487203.pdf?src-supplier=Digi-Key; ComponentLink4URL: https://datasheet.ciiva.com/9232/41326e-9232298.pdf?src-supplier=Avnet; ComponentLink4Description: https://datasheet.ciiva.com/9232/41326e-9232298.pdf?src-supplier=Avnet; ComponentLink5URL: https://datasheet.ciiva.com/7892/723486-7892124.pdf?src-supplier=Element14; ComponentLink5Description: https://datasheet.ciiva.com/7892/723486-7892124.pdf?src-supplier=Element14; ComponentLink6URL: https://datasheet.ciiva.com/29331/651631-da-01-en-ic-pic-mcu-pic16f526-i-sl-soic-14-mcp-29331131.pdf?src-supplier=Conrad; ComponentLink6Description: https://datasheet.ciiva.com/29331/651631-da-01-en-ic-pic-mcu-pic16f526-i-sl-soic-14-mcp-29331131.pdf?src-supplier=Conrad; Supplier Part Number 1: PIC16F526-I/SL-ND
footprint SO14
pins: 1 VDD, 2 RB5/OSC1/CLKIN, 3 RB4/OSC2/CLKOUT, 4 RB3/~{MCLR}/VPP, 5 RC5/T0CKI, 6 RC4/C2OUT, 7 RC3, 8 RC2/CVREF, 9 RC1/C2IN-, 10 RC0/C2IN+, 11 RB2/C1OUT/AN2, 12 RB1/C1IN-/AN1/ICSPCLK, 13 RB0/C1IN+/AN0/ICSPDAT, 14 VSS

## PIC16F883-I/SO
designator U?
IC MCU 8BIT 7KB FLASH 28SOIC; Manufacturer 1: Microchip; Number of I/Os: 24; Number of Timers/Counters: 3; Max Supply Voltage: 5.5V; Min Supply Voltage: 2V; Interface: I2C,SPI,UART,USART; Number of PWM Channels: 5; Frequency: 20MHz; RAM Size: 256B; Number of ADC Channels: 11; Max Power Dissipation: 800mW; Number of UART Channels: 1; Number of Programmable I/O: 25; Data Bus Width: 8b; Oscillator Type: Internal; Number of Bits: 8; Watchdog Timer: Yes; Nominal Supply Current: 220uA; Access Time: 20us; Peripherals: Brown-out Detect/Reset,POR,PWM,WDT,I2C; Core Architecture: PIC; Supplier 1: Digi-Key; Manufacturer Part Number 1: PIC16F883-I/SO; Description 1: IC MCU 8BIT 7KB FLASH 28SOIC; Stock 1: 469; Pricing 1: 1=1.79, 25=1.7408, 100=1.6892 (USD); Mount: Surface Mount; Case/Package: SOIC; Number of Pins: 28; Min Operating Temperature: -40°C; Max Operating Temperature: 85°C; Package Quantity: 27; Packaging: Rail/Tube; Density: 7KB; Memory Type: FLASH; Number of A/D Converters: 1; Max Frequency: 20MHz; Number of SPI Channels: 1; Number of I2C Channels: 1; Termination: SMD/SMT; Address Bus Width: 8b; Memory Size: 7KB; Length: 17.9mm; Height: 2.35mm; Width: 7.5mm; Radiation Hardening: No; REACH SVHC: No SVHC; Lead Free: Lead Free; ComponentLink1URL: http://www.farnell.com/datasheets/1681365.pdf?src-supplier=Element14; ComponentLink1Description: http://www.farnell.com/datasheets/1681365.pdf?src-supplier=Element14; ComponentLink2URL: https://www.distrelec.biz/Web/Downloads/_t/ds/pic16f882-4_6-7_eng_tds.pdf?mime=application%2Fpdf&src-supplier=Distrelec; ComponentLink2Description: https://www.distrelec.biz/Web/Downloads/_t/ds/pic16f882-4_6-7_eng_tds.pdf?mime=application%2Fpdf&src-supplier=Distrelec; ComponentLink3URL: http://ww1.microchip.com/downloads/en/DeviceDoc/41291G.pdf?src-supplier=Avnet+Europe; ComponentLink3Description: http://ww1.microchip.com/downloads/en/DeviceDoc/41291G.pdf?src-supplier=Avnet+Europe; ComponentLink4URL: http://www.rapidonline.com/pdf/73-3716.pdf?src-supplier=Rapid+Electronics; ComponentLink4Description: http://www.rapidonline.com/pdf/73-3716.pdf?src-supplier=Rapid+Electronics; ComponentLink5URL: http://ww1.microchip.com/downloads/en/DeviceDoc/41291F.pdf?src-supplier=Avnet; ComponentLink5Description: http://ww1.microchip.com/downloads/en/DeviceDoc/41291F.pdf?src-supplier=Avnet; ComponentLink6URL: http://www.microchip.com/mymicrochip/filehandler.aspx?ddocname=en027084&src-supplier=Future+Electronics; ComponentLink6Description: http://www.microchip.com/mymicrochip/filehandler.aspx?ddocname=en027084&src-supplier=Future+Electronics; ComponentLink7URL: http://www.microchip.com/mymicrochip/filehandler.aspx?ddocname=en555608&src-supplier=Digi-Key; ComponentLink7Description: http://www.microchip.com/mymicrochip/filehandler.aspx?ddocname=en555608&src-supplier=Digi-Key; ComponentLink8URL: https://produktinfo.conrad.com/datenblaetter/150000-174999/160443-da-01-en-PIC_PIC16F883_I_SO.pdf?src-supplier=Conrad; ComponentLink8Description: https://produktinfo.conrad.com/datenblaetter/150000-174999/160443-da-01-en-PIC_PIC16F883_I_SO.pdf?src-supplier=Conrad; Supplier Part Number 1: PIC16F883-I/SO-ND
footprint SOIC28
pins: 1 RE3/~{MCL}R/Vpp, 2 RA0/AN0/ULPWU/C12IN0-, 3 RA1/AN1/C12IN1-, 4 RA2/AN2/VREF-/CVREF/C2IN+, 5 RA3/AN3/VREF+/C1IN+, 6 RA4/T0CKI/C1OUT, 7 RA5/AN4/SS/C2OUT, 8 Vss, 9 RA7/OSC1/CLKIN, 10 RA6/OSC2/CLKOUT, 11 RC0/T1OSO/T1CKI, 12 RC1/T1OSI/CCP2, 13 RC2/P1A/CCP1, 14 RC3/SCK/SCL, 15 RC4/SDI/SDA, 16 RC5/SDO, 17 RC6/TX/CK, 18 RC7/RX/DT, 19 Vss, 20 Vdd, 21 RB0/AN12/INT, 22 RB1/AN10/P1C/C12IN3-, 23 RB2/AN8/P1B, 24 RB3/AN9/PGM/C12IN2-, 25 RB4/AN11/P1D, 26 RB5/AN13/~{T1G}, 27 RB6/ICSPCLK, 28 RB7/ICSPDAT

## PIC18F45K22T-I/PT
designator U?
IC MCU 8BIT 32KB FLASH 44TQFP; Manufacturer: Microchip Technology; Core Processor: PIC; Core Size: 8-Bit; Speed: 64MHz; Connectivity: I²C, SPI, UART/USART; Peripherals: Brown-out Detect/Reset, HLVD, POR, PWM, WDT; Program Memory Size: 32KB (16K x 16); EEPROM Size: 256 x 8; RAM Size: 1.5K x 8; Voltage - Supply (Vcc/Vdd): 2.3 V ~ 5.5 V; Data Converters: A/D 30x10b; Oscillator Type: Internal; Supplier 1: Digi-Key; Manufacturer Part Number: PIC18F45K22T-I/PT; RoHS: RoHS Compliant; Category: Integrated Circuits (ICs); Stock 1: 3607; Pricing 1: 1=2.73, 25=2.5028, 100=2.266 (USD); Packaging: Cut Tape (CT); Part Status: Active; Program Memory Type: FLASH; Operating Temperature: -40°C ~ 85°C (TA); Package / Case: 44-TQFP; Supplier Device Package: 44-TQFP (10x10); Base Part Number: PIC18F45K22; ComponentLink1URL: http://www.microchip.com/mymicrochip/filehandler.aspx?ddocname=en547043; ComponentLink1Description: http://www.microchip.com/mymicrochip/filehandler.aspx?ddocname=en547043; Supplier Part Number 1: PIC18F45K22T-I/PTCT-ND
footprint TQFP44
footprint TQFP44_TinyPad
footprint QFP44+TQFP44
footprint QFP44
pins: 1 RC7, 2 RD4, 3 RD5, 4 RD6, 5 RD7, 6 GND_1, 7 VCC_1, 8 RB0, 9 RB1, 10 RB2, 11 RB3, 12 NC_1, 13 NC_2, 14 RB4, 15 RB5, 16 PGC/RB6, 17 PGD/RB7, 18 ~{MCLR}, 19 RA0, 20 RA1, 21 RA2, 22 RA3, 23 RA4, 24 RA5, 25 RE0, 26 RE1, 27 RE2, 28 VCC_2, 29 GND_2, 30 RA7, 31 RA6, 32 RC0, 33 NC_3, 34 NC_4, 35 RC1, 36 RC2, 37 RC3, 38 RD0, 39 RD1, 40 RD2, 41 RD3, 42 RC4, 43 RC5, 44 RC6
text: PIC18(L)F2X/4XK22

## PIC18F45Q10-I/PT
designator U?
IC MCU 8BIT 32KB FLASH 44TQFP; Manufacturer: Microchip; Supplier 1: Digi-Key; Manufacturer Part Number: PIC18F45Q10-I/PT; RoHS: No; Pricing 1: 1=1,46000, 25=1,32000, 100=1,21000 (USD)
footprint TQFP44
pins: 1 RC7, 2 RD4, 3 RD5, 4 RD6, 5 RD7, 6 GND_1, 7 VCC_1, 8 RB0, 9 RB1, 10 RB2, 11 RB3, 12 NC_1, 13 NC_2, 14 RB4, 15 RB5, 16 ICSPCLK/RB6, 17 ICSPDAT/RB7, 18 VPP/~{MCLR}/RE3, 19 RA0, 20 RA1, 21 RA2, 22 RA3, 23 RA4, 24 RA5, 25 RE0, 26 RE1, 27 RE2, 28 VCC_2, 29 GND_2, 30 RA7, 31 RA6, 32 RC0, 33 NC_3, 34 NC_4, 35 RC1, 36 RC2, 37 RC3, 38 RD0, 39 RD1, 40 RD2, 41 RD3, 42 RC4, 43 RC5, 44 RC6
text: PIC18F26/45/46Q10

## PIC18F46K22T-I/PT
designator U?, comment PIC18F46K22
IC MCU 8BIT 64KB FLASH 44TQFP; Manufacturer: Microchip; Manufacturer Part Number: PIC18F46K22T-I/PT; Frequency: 64MHz; Interface: I2C,SPI,UART,USART; Max Supply Voltage: 5.5V; Min Supply Voltage: 1.8V; RAM Size: 3896B; Number of I/Os: 35; Number of Timers/Counters: 7; Max Power Dissipation: 1W; Data Bus Width: 8b; Number of Programmable I/O: 36; Oscillator Type: Internal; Watchdog Timer: Yes; Peripherals: Brown-out Detect/Reset,HLVD,POR,PWM,WDT; Core Architecture: PIC; Supplier 1: Digi-Key; Stock 1: 10880; Pricing 1: 1=3.13, 25=2.8636, 100=2.5956 (USD); Case/Package: TQFP; Number of Pins: 44; Min Operating Temperature: -40°C; Max Operating Temperature: 85°C; Packaging: Tape and Reel; Max Frequency: 64MHz; Memory Type: FLASH; Memory Size: 64KB; Radiation Hardening: No; Lead Free: Lead Free; ComponentLink1URL: http://ww1.microchip.com/downloads/en/DeviceDoc/41412F.pdf?src-supplier=Digi-Key; ComponentLink1Description: http://ww1.microchip.com/downloads/en/DeviceDoc/41412F.pdf?src-supplier=Digi-Key; ComponentLink2URL: http://ww1.microchip.com/downloads/en/DeviceDoc/41412F.pdf?src-supplier=Avnet; ComponentLink2Description: http://ww1.microchip.com/downloads/en/DeviceDoc/41412F.pdf?src-supplier=Avnet; Supplier Part Number 1: PIC18F46K22T-I/PTDKR-ND
footprint TQFP44
footprint QFP44
footprint TQFP44 + QFP44
footprint TQFP44_TinyPad
pins: 1 RC7, 2 RD4, 3 RD5, 4 RD6, 5 RD7, 6 GND_1, 7 VCC_1, 8 RB0, 9 RB1, 10 RB2, 11 RB3, 12 NC_1, 13 NC_2, 14 RB4, 15 RB5, 16 PGC/RB6, 17 PGD/RB7, 18 ~{MCLR}, 19 RA0, 20 RA1, 21 RA2, 22 RA3, 23 RA4, 24 RA5, 25 RE0, 26 RE1, 27 RE2, 28 VCC_2, 29 GND_2, 30 RA7, 31 RA6, 32 RC0, 33 NC_3, 34 NC_4, 35 RC1, 36 RC2, 37 RC3, 38 RD0, 39 RD1, 40 RD2, 41 RD3, 42 RC4, 43 RC5, 44 RC6
text: PIC18(L)F2X/4XK22

## PIC24FJ128GB106-I/MR
designator U?
IC MCU 16BIT PIC24F PIC RISC 128KB Flash 2.5V/3.3V 64-Pin QFN EP Tube; Manufacturer: Microchip; RAM Size: 16KB; Interface: I2C,SPI,USB,UART,USART; Number of I/Os: 51; Number of Timers/Counters: 5; Max Supply Voltage: 3.6V; Min Supply Voltage: 2V; Number of PWM Channels: 9; Frequency: 32MHz; Number of ADC Channels: 16; Number of UART Channels: 4; Data Bus Width: 16b; Number of A/D Converters: 1; Number of SPI Channels: 3; Watchdog Timer: Yes; Peripherals: PWM,I2C; Supplier 1: Digi-Key; Manufacturer Part Number: PIC24FJ128GB106-I/MR; Stock 1: 160; Pricing 1: 1 = 4,97000, 25 = 4,56000, 100 = 4,13000 (USD); RoHS: Yes; Mount: Surface Mount; Case/Package: QFN EP; Number of Pins: 64; Min Operating Temperature: -40°C; Max Operating Temperature: 85°C; Packaging: Rail/Tube; Package Quantity: 40; Density: 128KB; Number of Programmable I/O: 51; Number of Bits: 16; Memory Type: FLASH; Max Frequency: 32MHz; Number of I2C Channels: 3; Termination: SMD/SMT; Memory Size: 128KB; Core Architecture: PIC; Length: 0.354inch; Height: 0.037inch; Width: 0.354inch; Radiation Hardening: No; REACH SVHC: No SVHC; Lead Free: Lead Free; ComponentLink1URL: https://datasheet.ciiva.com/1561/39897c-1561697.pdf?src-supplier=Digi-Key; ComponentLink1Description: https://datasheet.ciiva.com/1561/39897c-1561697.pdf?src-supplier=Digi-Key; ComponentLink2URL: https://datasheet.ciiva.com/7790/1669432-7790072.pdf?src-supplier=Element14; ComponentLink2Description: https://datasheet.ciiva.com/7790/1669432-7790072.pdf?src-supplier=Element14; ComponentLink3URL: https://datasheet.ciiva.com/16336/filehandler-aspxddocname-en534963-16336844.pdf?src-supplier=Future+Electronics; ComponentLink3Description: https://datasheet.ciiva.com/16336/filehandler-aspxddocname-en534963-16336844.pdf?src-supplier=Future+Electronics; Supplier Part Number 1: PIC24FJ128GB106-I/MR-ND
footprint QFN64
part A pins: 11 PGEC3/AN5/C1INA/VBUSON/RP18/CN7/RB5 (io), 12 PGED3/AN4/C1INB/USBOEN/RP28/CN6/RB4 (io), 13 AN3/C2INA/VPIO/CN5/RB3 (io), 14 AN2/C2INB/VMIO/RP13/CN4/RB2 (io), 15 PGEC1/AN1/VREF-/RP1/CN3/RB1 (io), 16 PGED1/AN0/VREF+/RP0/PMA6/CN2/RB0 (io), 17 PGEC2/AN6/RP6/CN24/RB6 (io), 18 PGED2/AN7/RP7/RCV/CN25/RB7 (io), 21 AN8/RP8/CN26/RB8 (io), 22 AN9/RP9/PMA7/CN27/RB9 (io), 23 TMS/CVREF/AN10/PMA13/CN28/RB10 (io), 24 TDO/AN11/PMA12/CN29/RB11 (io), 27 TCK/AN12/PMA11/CTED2/CN30/RB12 (io), 28 TDI/AN13/PMA10/CTED1/CN31/RB13 (io), 29 AN14/CTPLS/RP14/PMA1/CN32/RB14 (io), 30 AN15/RP29/REFO/PMA0/CN12/RB15 (io)
part B pins: 39 OSCI/CLKI/CN23/RC12 (io), 40 OSCO/CLKO/CN22/RC15 (io), 47 SOSCI/C3IND/CN1/RC13 (io), 48 SOSCO/T1CK/C3INC/RPI37/CN0/RC14 (io)
part C pins: 42 C3INA/CN16/RD8 (io), 43 DPLN/SDA1/RP4/CN54/RD9 (io), 44 SCL1/RP3/PMCS2/CN55/RD10 (io), 45 RP12/PMCS1/CN56/RD11 (io), 46 DMH/RP11/INT0/CN49/RD0 (io), 49 Vcpcon/RP24/CN50/RD1 (io), 50 DPH/RP23/CN51/RD2 (io), 51 RP22/PMBE/CN52/RD3 (io), 52 RP25/PMWR/CN13/RD4 (io), 53 RP20/PMRD/CN14/RD5 (io), 54 C3INB/CN15/RD6 (io), 55 C3INA/CN16/RD7 (io)
part D pins: 1 PMD5/CN63/RE5 (io), 2 SCL3/PMD6/CN64/RE6 (io), 3 SDA3/PMD7/CN65/RE7 (io), 60 PMD0/CN58/RE0 (io), 61 PMD1/CN59/RE1 (io), 62 PMD2/CN60/RE2 (io), 63 PMD2/CN60/RE3 (io), 64 PMD4/CN62/RE4 (io)
part E pins: 31 SDA2/RP10/PMA9/CN17/RF4 (io), 32 SCL2/RP17/PMA8/CN18/RF5 (io), 33 RP16/USBID/CN71/RF3 (io), 58 VBUSST/VCMPST1/CN68/RF0 (io), 59 VCMPST2/CN69/RF1 (io)
part F pins: 4 C1IND/RP21/PMA5/CN8/RG6 (io), 5 C1INC/RP26/PMA4/CN9/RG7 (io), 6 C1INC/RP26/PMA4/CN9/RG8 (io), 8 RP27/PMA2/C2INC/CN11/RG9 (io), 36 D-/RG3 (io), 37 D+/RG2 (io)
part G pins: 7 ~{MCLR} (in), 9 Vss (power), 10 Vdd (power), 19 AVDD (power), 20 AVss (power), 25 Vss (power), 26 Vdd (power), 34 Vbus (power), 35 Vusb (power), 38 Vdd (power), 41 Vss (power), 56 Vcap/Vddcore, 57 ENVREG (in), P Vss
part A text: PORT B
part B text: PORT C
part C text: PORT D
part D text: PORT E
part E text: PORT F
part F text: PORT G
part G text: POWER

## PJD45N06A_L2_00001
designator Q?, comment PJD45N06A
MOSFET N-CH 60V 45A DPAK; Manufacturer: Pan Jit; Manufacturer Part Number: PJD45N06A_L2_00001; Supplier 1: Mouser; RoHS: Yes; Category: MOSFETs; Pricing 1: 1=0,78000, 10=0,68700, 50=0,68700, 100=0,52600, 1000=0,33300, 10000=0,29000 (USD); Supplier Part Number 1: 241-PJD45N06AL200001
footprint DPAK
pins: 1 G, 2 D, 3 S

## PMLL4148L,115
designator D?, comment 1N4148
DIODE GEN PURP 75V 200MA LLDS; Manufacturer: Nexperia USA Inc.; Manufacturer Part Number: PMLL4148L,115; Diode Type: Standard; Current - Average Rectified (Io): 200mA (DC); Speed: Small Signal =< 200mA (Io), Any Speed; Capacitance @ Vr, F: 4pF @ 0V, 1MHz; Supplier 1: Digi-Key; RoHS: RoHS Compliant; Category: Discrete Semiconductor Products; Stock 1: 256663; Pricing 1: 1=0.12, 10=0.114, 100=0.0619, 500=0.03806, 1000=0.02596 (USD); Packaging: Cut Tape (CT); Part Status: Active; Mounting Type: Surface Mount; Package / Case: DO-213AC, MINI-MELF, SOD-80; Supplier Device Package: SOD-80C; Operating Temperature - Junction: 200°C (Max); Base Part Number: LL4148; ComponentLink1URL: https://assets.nexperia.com/documents/data-sheet/PMLL4148L_PMLL4448.pdf; ComponentLink1Description: https://assets.nexperia.com/documents/data-sheet/PMLL4148L_PMLL4448.pdf; Supplier Part Number 1: 1727-2967-1-ND
footprint SOD-80
pins: A Anot, K Katot

## PNP5WVJR-73-220R
designator R?, comment 220R/5W
RES 220 OHM 5% 5W AXIAL; Manufacturer: Yageo; Manufacturer Part Number: PNP5WVJR-73-220R; Resistance: 220R; Temperature Coefficient: 300ppm/°C; Supplier 1: Digi-Key; Stock 1: 2359; Pricing 1: 1 = 0,59000, 10 = 0,49300, 25 = 0,42280, 50 = 0,38060, 100 = 0,33130, 250 = 0,29604 (USD); RoHS: Yes; Case/Package: Axial; Tolerance: 5%; Packaging: Tape and Reel; Max Power Dissipation: 5W; Composition: Wirewound; Number of Terminations: 2; Length: 0.669inch; Supplier Part Number 1: YAG5791CT-ND
footprint R_DIP_(17x7.5)
pins: 1, 2

## PNP400JR-73-0R47
designator R?, comment 0.47R 4W
RES 0.47 OHM 4W 5% AXIAL
footprint RES_PNP400_15P5X
pins: 1, 2

## PPTC041LFBN-RC
designator J?
CONN HDR 4POS FEMALE 100mil PCB; Manufacturer 1: Sullins; Number of Positions: 4; Connector Type: Header,Socket; Pitch: 0.1inch; Supplier 1: Digi-Key; Manufacturer Part Number 1: PPTC041LFBN-RC; Stock 1: 2728; Pricing 1: 1=0.45, 10=0.424, 100=0.325, 500=0.2826, 1000=0.23315, 5000=0.20489, 10000=0.2041 (USD); Mount: Through Hole; Color: Black; Contact Plating: Tin; Contact Material: Bronze; Housing Material: Plastic; Package Quantity: 1000; Number of Rows: 1; Packaging: Bulk; Termination: Solder; Length: 10.7mm; Height: 8.5mm; Width: 2.5mm; Lead Free: Lead Free; Supplier Part Number 1: S7002-ND
footprint 1x4_100mil_Header_female
pins: 1, 2, 3, 4

## PPTC051LFBN-RC
designator J?
CONN HEADER 5POS 2.54MM FEM SGL TIN; Manufacturer: Sullins Connector Solutions; Style: Board to Board; Number of Positions: 5; Number of Positions Loaded: All; Pitch - Mating: 0.100" (2.54mm); Contact Length - Post: 0.126" (3.20mm); Material Flammability Rating: UL94 V-0; Current Rating: 3A; Voltage Rating: 250V; Supplier 1: Digi-Key; Manufacturer Part Number: PPTC051LFBN-RC; RoHS: RoHS Compliant; Category: Connectors, Interconnects; Stock 1: 12233; Pricing 1: 1=0.47, 10=0.443, 100=0.3395, 500=0.2952, 1000=0.24354, 5000=0.21402, 10000=0.2132 (USD); Packaging: Bulk; Part Status: Active; Connector Type: Header; Contact Type: Female Socket; Row Spacing - Mating: -; Mounting Type: Through Hole; Termination: Solder; Fastening Type: Push-Pull; Contact Finish - Mating: Tin; Contact Finish Thickness - Mating: -; Insulation Color: Black; Insulation Height: 0.335" (8.51mm); Operating Temperature: -40°C ~ 105°C; Contact Finish - Post: Tin; Mated Stacking Heights: -; Ingress Protection: -; Features: -; Applications: -; Insulation Material: Polyester; Contact Shape: Square; Contact Material: Phosphor Bronze; Contact Finish Thickness - Post: -; ComponentLink1URL: http://www.sullinscorp.com/drawings/78_P(N)PxCxxxLFBN-RC,_10492-H.pdf; ComponentLink1Description: http://www.sullinscorp.com/drawings/78_P(N)PxCxxxLFBN-RC,_10492-H.pdf; Supplier Part Number 1: S6103-ND
footprint 1x5_100mil_Header_programmer
footprint 1x5_100mil_Header_programmer_no3d
footprint 1x5_100mil_Header_programmer_no3d_nosilk
footprint 1x5_100mil_Header_programmer_no3d_1MM
pins: 1, 2, 3, 4, 5

## PT10MV10-103A2020-S
designator POT?
POT 10K OHM LINEAR; Manufacturer 1: Piher; Number of Gangs: 1; Supplier 1: Digi-Key; Manufacturer Part Number 1: PT10MV10-103A2020-S; Description 1: POT 10K OHM LINEAR; Stock 1: 4792; Pricing 1: 1=0.46, 10=0.427, 25=0.3812, 50=0.3682, 100=0.3419, 250=0.33532, 500=0.30902, 1000=0.263, 5000=0.21698 (USD); Mount: Through Hole; Packaging: Bulk; Termination: Pin; Number of Turns: 1; ComponentLink1URL: http://www.mouser.com/ds/2/325/12-PT10v03-6148.pdf?src-supplier=Mouser; ComponentLink1Description: http://www.mouser.com/ds/2/325/12-PT10v03-6148.pdf?src-supplier=Mouser; Supplier Part Number 1: 1993-1104-ND
footprint pot_piher_v10
pins: 1, 2, 3

## PT0805JR-070R33L
designator R?, comment 0R33
RES SMD 0.33 OHM 5% 1/8W 0805; Manufacturer 1: Yageo; Manufacturer Part Number 1: PT0805JR-070R33L; Resistance: 330mR; Max Power Dissipation: 125mW; Temperature Coefficient: 100ppm/°C; Supplier 1: Digi-Key; Description 1: RES SMD 0.33 OHM 5% 1/8W 0805; Stock 1: 0; Pricing 1: 5000=0.04556 (USD); Case/Package: 0805; Min Operating Temperature: -55°C; Max Operating Temperature: 155°C; Packaging: Tape and Reel; Composition: Thick Film; Number of Terminations: 2; Tolerance: 5%; Features: Moisture Resistant,Automotive AEC-Q200; Length: 0.079inch; Height: 0.026inch; Width: 0.049inch; Supplier Part Number 1: PT0805JR-070R33L-ND
footprint R_0805
footprint R_0805_NOSILK
footprint R_0805_SHORT_SILK
pins: 1, 2

## PTC_45mA_0603
designator PTC?, comment PRG18BB101MB1RB
PTC RESET FUSE 24V 21MA 0603; Manufacturer: Murata Electronics North America; Approvals: UL; Supplier 1: Digi-Key; Manufacturer Part Number: PRG18BB101MB1RB; RoHS: RoHS Compliant; Category: Circuit Protection; Stock 1: 104632; Pricing 1: 1=0.54, 5=0.516, 10=0.449, 25=0.3948, 50=0.328, 100=0.2793, 500=0.2429, 1000=0.21254 (USD); Packaging: Cut Tape (CT); Part Status: Active; Type: Ceramic; Voltage - Max: 24V; Operating Temperature: -20°C ~ 75°C; Ratings: -; Mounting Type: Surface Mount; Package / Case: 0603 (1608 Metric); Size / Dimension: 0.063" L x 0.032" W (1.60mm x 0.80mm); Height - Seated (Max): -; Thickness (Max): 0.037" (0.95mm); Lead Spacing: -; ComponentLink1URL: https://www.murata.com/~/media/webrenewal/products/thermistor/ptc/prg/bc-e0160j-prg18bbmb1rb-e.ashx?la=en-us; ComponentLink1Description: https://www.murata.com/~/media/webrenewal/products/thermistor/ptc/prg/bc-e0160j-prg18bbmb1rb-e.ashx?la=en-us; Supplier Part Number 1: 490-2469-1-ND
footprint ptc_0603
pins: 1, 2